# Altium footprint library MPU.PcbLib: 2 footprints
Each footprint in its own frame and in the unit in brackets; x right, y up, seen from the top. Pads: shape width x height; smd on the part's side, far side on the other; paste and mask are expansions set on the pad; w line width, h text height; cw(c..) or ccw(c..) is an arc to the next point about the centre after c.
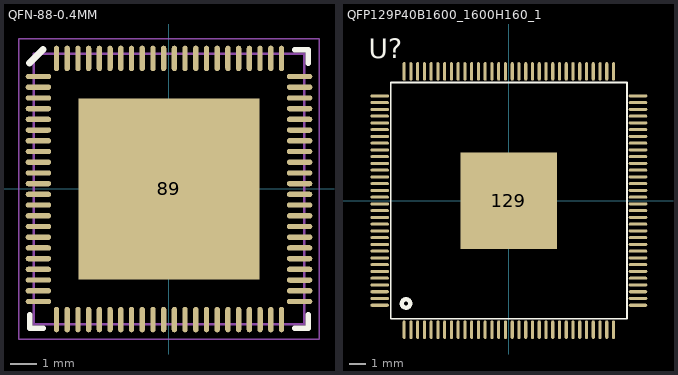
[diagram p0: the footprints below, top view; thin cyan lines are the x and y axes]

## QFN-88-0.4MM [mm] "QFN, 88-Leads, Body 10.00x10.00mm, Pitch 0.40mm, Thermal Pad 6.74x6.74mm, IPC Medium Density"
height 0.85
pads (89):
  oval 0.95x0.2 smd: 1(-4.875,4.2) 2(-4.875,3.8) 3(-4.875,3.4) 4(-4.875,3) 5(-4.875,2.6) 6(-4.875,2.2) 7(-4.875,1.8) 8(-4.875,1.4) 9(-4.875,1) 10(-4.875,0.6) 11(-4.875,0.2) 12(-4.875,-0.2) 13(-4.875,-0.6) 14(-4.875,-1) 15(-4.875,-1.4) 16(-4.875,-1.8) 17(-4.875,-2.2) 18(-4.875,-2.6) 19(-4.875,-3) 20(-4.875,-3.4) 21(-4.875,-3.8) 22(-4.875,-4.2) 45(4.875,-4.2) 46(4.875,-3.8) 47(4.875,-3.4) 48(4.875,-3) 49(4.875,-2.6) 50(4.875,-2.2) 51(4.875,-1.8) 52(4.875,-1.4) 53(4.875,-1) 54(4.875,-0.6) 55(4.875,-0.2) 56(4.875,0.2) 57(4.875,0.6) 58(4.875,1) 59(4.875,1.4) 60(4.875,1.8) 61(4.875,2.2) 62(4.875,2.6) 63(4.875,3) 64(4.875,3.4) 65(4.875,3.8) 66(4.875,4.2)
  oval 0.2x0.95 smd: 23(-4.2,-4.875) 24(-3.8,-4.875) 25(-3.4,-4.875) 26(-3,-4.875) 27(-2.6,-4.875) 28(-2.2,-4.875) 29(-1.8,-4.875) 30(-1.4,-4.875) 31(-1,-4.875) 32(-0.6,-4.875) 33(-0.2,-4.875) 34(0.2,-4.875) 35(0.6,-4.875) 36(1,-4.875) 37(1.4,-4.875) 38(1.8,-4.875) 39(2.2,-4.875) 40(2.6,-4.875) 41(3,-4.875) 42(3.4,-4.875) 43(3.8,-4.875) 44(4.2,-4.875) 67(4.2,4.875) 68(3.8,4.875) 69(3.4,4.875) 70(3,4.875) 71(2.6,4.875) 72(2.2,4.875) 73(1.8,4.875) 74(1.4,4.875) 75(1,4.875) 76(0.6,4.875) 77(0.2,4.875) 78(-0.2,4.875) 79(-0.6,4.875) 80(-1,4.875) 81(-1.4,4.875) 82(-1.8,4.875) 83(-2.2,4.875) 84(-2.6,4.875) 85(-3,4.875) 86(-3.4,4.875) 87(-3.8,4.875) 88(-4.2,4.875)
  rect 6.74x6.74 smd: 89(0,0)
Top Overlay:
  lines w0.2: -5.2,-4.7 -5.2,-5.2 -4.7,-5.2 ; 4.7,-5.2 5.2,-5.2 5.2,-4.7 ; 4.7,5.2 5.2,5.2 5.2,4.7
  lines w0.254: -5.207,4.699 -4.699,5.207
Mechanical 13:
  lines w0.1: -5.05,-5.05 -5.05,5.05 5.05,5.05 5.05,-5.05 -5.05,-5.05
Mechanical 15:
  lines w0.05: -5.6,-5.6 -5.6,5.6 5.6,5.6 5.6,-5.6 -5.6,-5.6
  lines w0.1: -0.5,0 0.5,0 ; 0,-0.5 0,0.5
3D body "User Library-QFN-88P35_EP.step": height 1.11, standoff 0, extent -5.166,-5.166 5.166,5.166

## QFP129P40B1600_1600H160_1 [mm]
pads (129):
  oval 0.18x1.1 smd paste+0 mask+0.102: 1(-6.2,-7.65) 2(-5.8,-7.65) 3(-5.4,-7.65) 4(-5,-7.65) 5(-4.6,-7.65) 6(-4.2,-7.65) 7(-3.8,-7.65) 8(-3.4,-7.65) 9(-3,-7.65) 10(-2.6,-7.65) 11(-2.2,-7.65) 12(-1.8,-7.65) 13(-1.4,-7.65) 14(-1,-7.65) 15(-0.6,-7.65) 16(-0.2,-7.65) 17(0.2,-7.65) 18(0.6,-7.65) 19(1,-7.65) 20(1.4,-7.65) 21(1.8,-7.65) 22(2.2,-7.65) 23(2.6,-7.65) 24(3,-7.65) 25(3.4,-7.65) 26(3.8,-7.65) 27(4.2,-7.65) 28(4.6,-7.65) 29(5,-7.65) 30(5.4,-7.65) 31(5.8,-7.65) 32(6.2,-7.65) 65(6.2,7.65) 66(5.8,7.65) 67(5.4,7.65) 68(5,7.65) 69(4.6,7.65) 70(4.2,7.65) 71(3.8,7.65) 72(3.4,7.65) 73(3,7.65) 74(2.6,7.65) 75(2.2,7.65) 76(1.8,7.65) 77(1.4,7.65) 78(1,7.65) 79(0.6,7.65) 80(0.2,7.65) 81(-0.2,7.65) 82(-0.6,7.65) 83(-1,7.65) 84(-1.4,7.65) 85(-1.8,7.65) 86(-2.2,7.65) 87(-2.6,7.65) 88(-3,7.65) 89(-3.4,7.65) 90(-3.8,7.65) 91(-4.2,7.65) 92(-4.6,7.65) 93(-5,7.65) 94(-5.4,7.65) 95(-5.8,7.65) 96(-6.2,7.65)
  oval 1.1x0.18 smd paste+0 mask+0.102: 33(7.65,-6.2) 34(7.65,-5.8) 35(7.65,-5.4) 36(7.65,-5) 37(7.65,-4.6) 38(7.65,-4.2) 39(7.65,-3.8) 40(7.65,-3.4) 41(7.65,-3) 42(7.65,-2.6) 43(7.65,-2.2) 44(7.65,-1.8) 45(7.65,-1.4) 46(7.65,-1) 47(7.65,-0.6) 48(7.65,-0.2) 49(7.65,0.2) 50(7.65,0.6) 51(7.65,1) 52(7.65,1.4) 53(7.65,1.8) 54(7.65,2.2) 55(7.65,2.6) 56(7.65,3) 57(7.65,3.4) 58(7.65,3.8) 59(7.65,4.2) 60(7.65,4.6) 61(7.65,5) 62(7.65,5.4) 63(7.65,5.8) 64(7.65,6.2) 97(-7.65,6.2) 98(-7.65,5.8) 99(-7.65,5.4) 100(-7.65,5) 101(-7.65,4.6) 102(-7.65,4.2) 103(-7.65,3.8) 104(-7.65,3.4) 105(-7.65,3) 106(-7.65,2.6) 107(-7.65,2.2) 108(-7.65,1.8) 109(-7.65,1.4) 110(-7.65,1) 111(-7.65,0.6) 112(-7.65,0.2) 113(-7.65,-0.2) 114(-7.65,-0.6) 115(-7.65,-1) 116(-7.65,-1.4) 117(-7.65,-1.8) 118(-7.65,-2.2) 119(-7.65,-2.6) 120(-7.65,-3) 121(-7.65,-3.4) 122(-7.65,-3.8) 123(-7.65,-4.2) 124(-7.65,-4.6) 125(-7.65,-5) 126(-7.65,-5.4) 127(-7.65,-5.8) 128(-7.65,-6.2)
  rect 5.72x5.72 smd paste+0 mask+0.102: 129(0,0)
Top Overlay:
  lines w0.1: -7,-7 -7,7 7,7 7,-7 -7,-7
  lines w0.25: -5.842,-6.101 cw(c-6.092,-6.096) -5.842,-6.096
  text "U?" at -8.302,8.429 h1.14
Top Paste:
  lines w0.254: -2.2,-2.2 -2.2,-1.3 -1.35,-1.3 -1.35,-1.1 -2.2,-1.1 -2.2,-0.1 -1.35,-0.1 -1.35,0.1 -2.2,0.1 -2.2,1.1 -1.35,1.1 -1.35,1.3 -2.2,1.3 -2.2,2.2 -1.3,2.2 -1.3,-1.3 -0.15,-1.3 -0.15,-1.1 -1.1,-1.1 -1.1,-0.1 -0.15,-0.1 -0.15,0.1 -1.1,0.1 -1.1,1.1 -0.15,1.1 -0.15,1.3 -1.1,1.3 -1.1,2.2 -0.1,2.2 -0.1,-1.3 1.05,-1.3 1.05,-1.1 0.1,-1.1 0.1,-0.1 1.05,-0.1 1.05,0.1 0.1,0.1 0.1,1.1 1.05,1.1 1.05,1.3 0.1,1.3 0.1,2.2 1.1,2.2 1.1,-1.3 2.15,-1.3 2.15,-1.1 1.3,-1.1 1.3,-0.1 2.15,-0.1 2.15,0.1 1.3,0.1 1.3,1.1 2.1,1.1 2.15,1.1 2.15,1.3 2.1,1.3 1.3,1.3 1.3,2.2 2.2,2.2 2.2,0.4 2.2,-2.2 1.3,-2.2 1.3,-1.35 1.1,-1.35 1.1,-2.2 0.1,-2.2 0.1,-1.35 -0.1,-1.35 -0.1,-2.15 -0.1,-2.2 -1.1,-2.2 -1.1,-2.15 -1.1,-1.35 -1.3,-1.35 -1.3,-2.2 -2.2,-2.2
3D body "LQFP-128_L14.0-W14.0-P0.40-LS16.0-BL-EP5.6.step": height 1.49, standoff -0.01, extent -7.999,-7.999 8.001,8.001